# EAGLE library part 74HC4066 (library Bauteile)
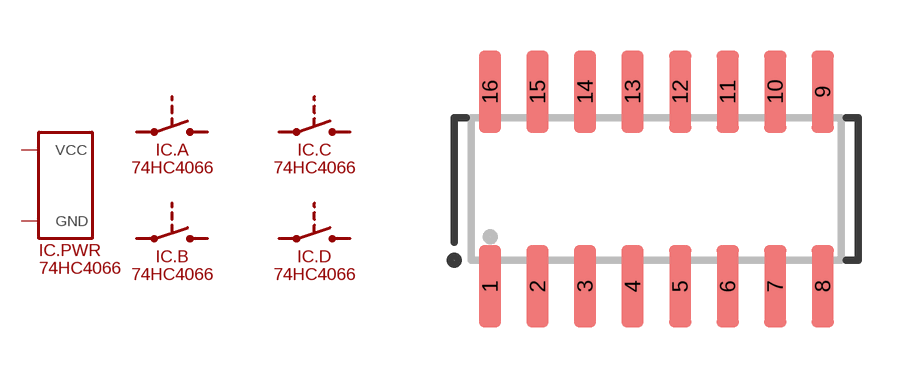
[diagram p68: symbol with the pads of SO16; footprint SO16]

Designator prefix IC; gates .PWR=SUPPLY_VCC/GND .A=SWITCH_ELECTRONIC .B=SWITCH_ELECTRONIC .C=SWITCH_ELECTRONIC .D=SWITCH_ELECTRONIC

## 74HC4066  [SO16]
1  .A:1
2  .A:2
3  .B:1
4  .B:2
5  .B:SW
6  .C:SW
7  .PWR:GND
8  .C:1
9  .C:2
10  .D:2
11  .D:1
12  .D:SW
13  .A:SW
14  .PWR:VCC

## Footprint SO16 (pad centres in mm)
smd 0.6 x 2.2: 1 -4.445,-2.6; 2 -3.175,-2.6; 3 -1.905,-2.6; 4 -0.635,-2.6; 5 0.635,-2.6; 6 1.905,-2.6; 7 3.175,-2.6; 8 4.445,-2.6; 9 4.445,2.6; 10 3.175,2.6; 11 1.905,2.6; 12 0.635,2.6; 13 -0.635,2.6; 14 -1.905,2.6; 15 -3.175,2.6; 16 -4.445,2.6